# EAGLE library part 20021121-00010C4LF (library Clock)
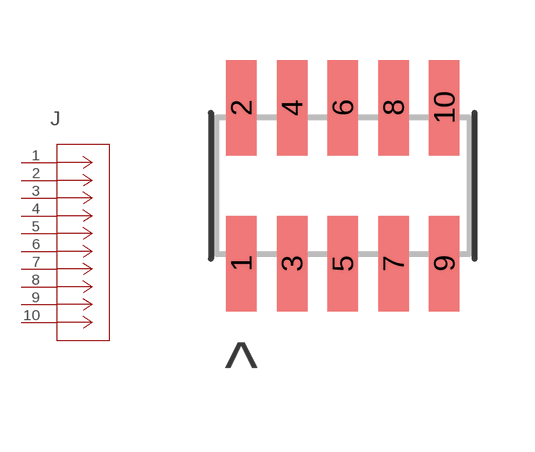
[diagram p1: symbol with the pads of CONN_00010C4LF; footprint CONN_00010C4LF]

Designator prefix J

## 20021121-00010C4LF (BUILT_BY: EMA_Matt; COPYRIGHT: Copyright (C) 2018 Accelerated Designs. All rights reserved; MANUFACTURER_PART_NUMBER: 20021121-00010C4LF; VENDOR: Amphenol)  [CONN_00010C4LF]
1  1  pas
2  2  pas
3  3  pas
4  4  pas
5  5  pas
6  6  pas
7  7  pas
8  8  pas
9  9  pas
10  10  pas

## Footprint CONN_00010C4LF (pad centres in mm)
smd 0.762 x 2.388: 1 -5.08,-3.9; 2 -5.08,0; 3 -3.81,-3.9; 4 -3.81,0; 5 -2.54,-3.9; 6 -2.54,0; 7 -1.27,-3.9; 8 -1.27,0; 9 0,-3.9; 10 0,0